# EAGLE library part 43045-0600 (library ruark2)
Connector Header Through Hole, Right Angle 6 position 0.118" (3.00mm)
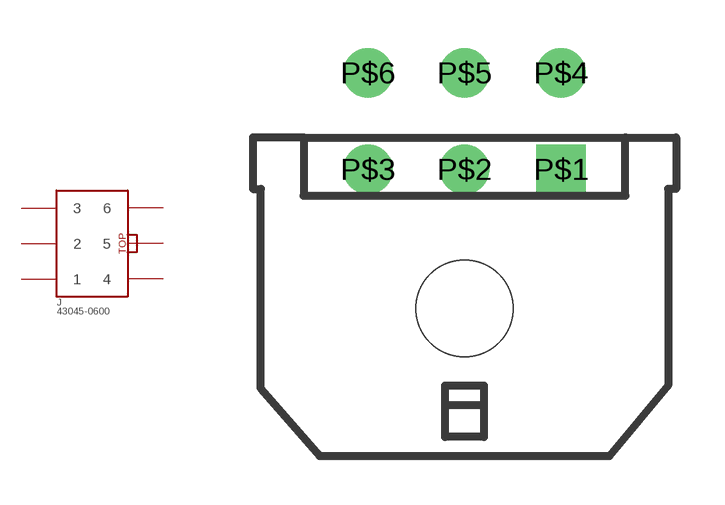
[diagram p107: symbol with the pads of 43045-0600; footprint 43045-0600]

Designator prefix J

## 43045-0600 (PARTNO: WM1815-ND)  [43045-0600]
P$1  1
P$2  2
P$3  3
P$4  4
P$5  5
P$6  6

## Footprint 43045-0600 (pad centres in mm)
drill 1.02 square: P$1 3,4.32
drill 1.02: P$2 0,4.32; P$3 -3,4.32; P$4 3,7.32; P$5 0,7.32; P$6 -3,7.32
hole 3 at 0,0